# Altium footprint library OBDII-components.PcbLib: 27 footprints (part 2 of 2)
Each footprint in its own frame and in the unit in brackets; x right, y up, seen from the top. Pads: shape width x height; smd on the part's side, far side on the other; paste and mask are expansions set on the pad; w line width, h text height; cw(c..) or ccw(c..) is an arc to the next point about the centre after c.
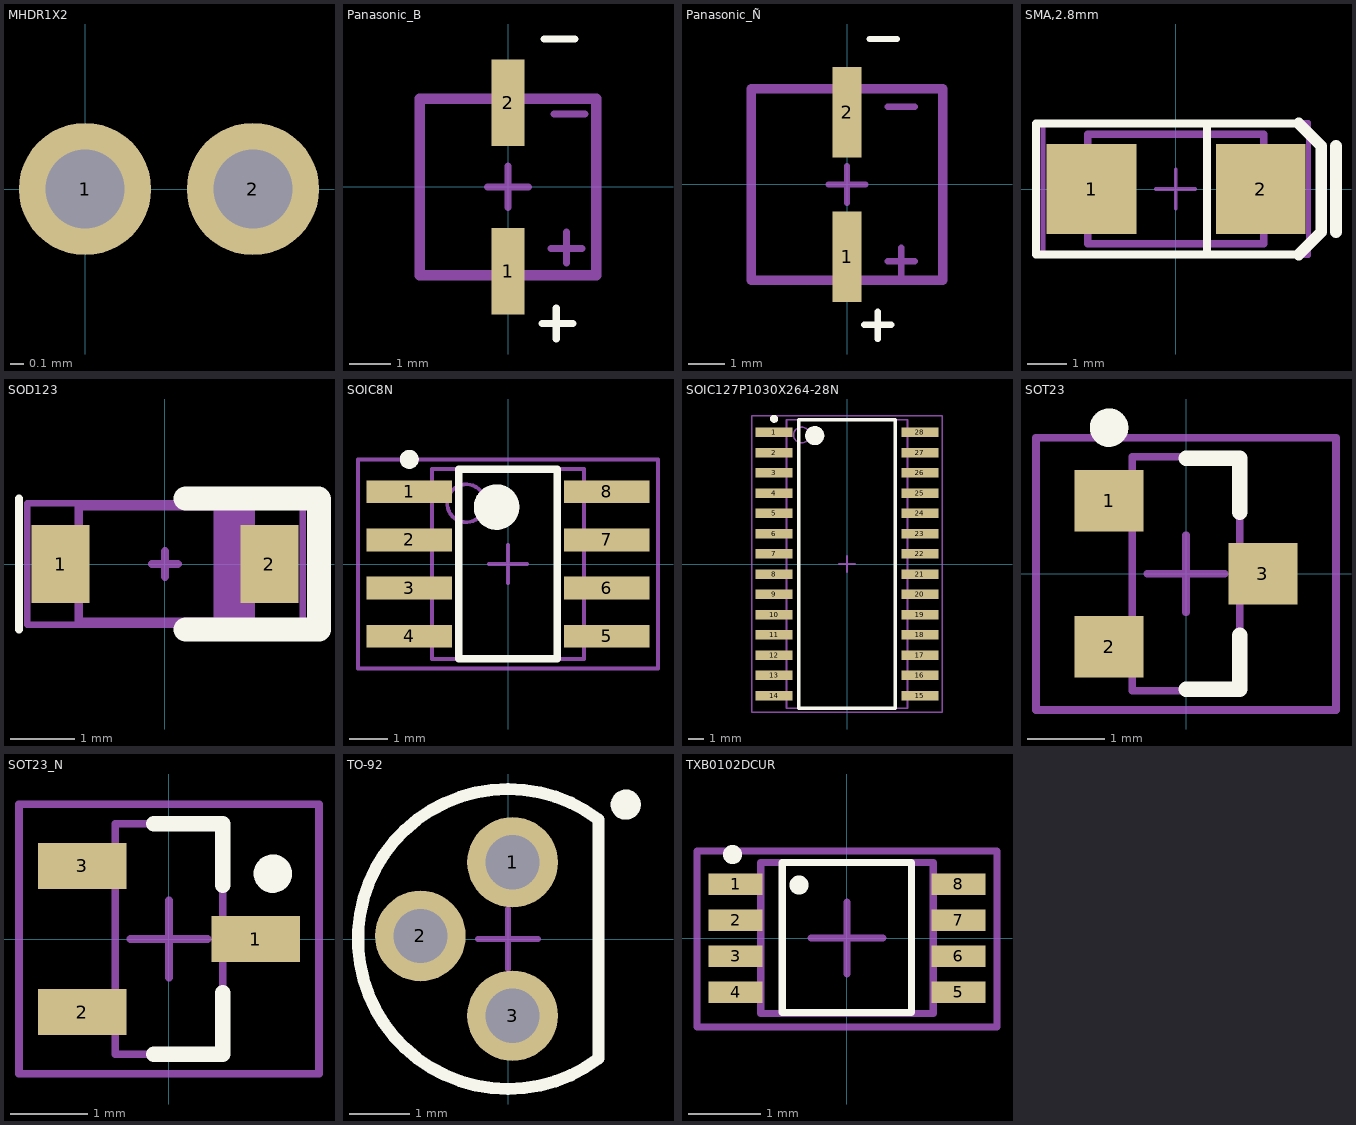
[diagram p1: the footprints below, top view; thin cyan lines are the x and y axes]

## MHDR1X2 [mm] "Connector; Header; 2 Position"
pads (2):
  round 1 hole 0.6: 1(0,0) 2(1.27,0)

## Panasonic_B [mm] "Panasonic Ñ size code electrolytic capacitor"
height 5.5
pads (2):
  rect 0.8x2.1 smd paste+0: 1(0,-2.05)
  rect 0.8x2.1 smd: 2(0,2.05)
Top Overlay:
  lines w0.178: 0.825,-3.325 1.575,-3.325 ; 0.875,3.6 1.625,3.6 ; 1.175,-3.7 1.175,-2.95
Mechanical 1:
  text ".Designator" at -1.5,-0.5 h1.27
Mechanical 13:
  lines w0.178: 1.05,-1.5 1.8,-1.5 ; 1.125,1.775 1.875,1.775 ; 1.425,-1.85 1.425,-1.1
Mechanical 15:
  lines w0.178: -0.5,0 0.5,0 ; 0,-0.5 0,0.5
  lines w0.254: -2.15,-2.15 2.15,-2.15 2.15,2.15 -2.15,2.15 -2.15,-2.15

## Panasonic_Ñ [mm] "Panasonic Ñ size code electrolytic capacitor"
height 6.5
pads (2):
  rect 0.8x2.5 smd paste+0: 1(0,-2)
  rect 0.8x2.5 smd: 2(0,2)
Top Overlay:
  lines w0.178: 0.475,-3.875 1.225,-3.875 ; 0.625,4.025 1.375,4.025 ; 0.85,-4.275 0.85,-3.525
Mechanical 1:
  text ".Designator" at -1.5,-0.5 h1.27
Mechanical 13:
  lines w0.178: 1.125,-2.125 1.875,-2.125 ; 1.125,2.15 1.875,2.15 ; 1.5,-2.5 1.5,-1.75
Mechanical 15:
  lines w0.178: -0.5,0 0.5,0 ; 0,-0.5 0,0.5
  lines w0.254: -2.65,-2.65 2.65,-2.65 2.65,2.65 -2.65,2.65 -2.65,-2.65

## SMA,2.8mm [mm] "DO-214AC/SMA"
height 2.3
pads (2):
  rect 2.3x2.3 smd: 1(-2.15,0) 2(2.175,0)
Top Overlay:
  lines w0.2: 0.8,-1.675 0.8,1.675 ; 3.15,-1.675 -3.575,-1.675 -3.575,1.675 3.15,1.675
  lines w0.3: 3.15,-1.675 3.725,-1.1 3.725,1.1 3.15,1.675 ; 4.1,-1.1 4.1,1.1
Mechanical 1:
  text ".Designator" at 0,0 h0.64
Mechanical 13:
  lines w0.15: -2.25,-0.85 -2.8,-0.85 -2.8,0.85 -2.25,0.85 ; 2.25,-0.85 2.8,-0.85 2.8,0.85 2.25,0.85 ; 2.25,-0.5 cw(c2.25,0) 2.25,0.5 2.25,-0.5
  lines w0.2: 0.8,-1.4 0.8,1.4 ; 2.249,-1.4 -2.25,-1.4 -2.25,1.4 2.249,1.4 ; 2.25,-1.399 2.25,-0.5 ; 2.25,0.5 2.25,1.399
Mechanical 15:
  lines w0.1: -0.5,0 0.5,0 ; 0,-0.5 0,0.5
  lines w0.127: -3.4,-1.7 3.4,-1.7 3.4,1.7 -3.4,1.7 -3.4,-1.7
3D body: height 2.39, standoff -0.02, extent -2.6,-1.3 2.6,1.3

## SOD123 [mm] "Diode SOD123, Gull-wing"
height 0.034
pads (2):
  rect 0.91x1.22 smd: 1(-1.635,0) 2(1.635,0)
Top Overlay:
  lines w0.127: -2.286,-1.025 -2.286,1.025
  lines w0.254: 2.404,1.025 2.413,1.016
  lines w0.381: 0.325,-1.025 2.413,-1.025 2.413,1.016 ; 0.325,1.025 2.404,1.025
Mechanical 1:
  text ".Designator" at 0,0 h0.64
Mechanical 13:
  region: 0.762,-0.9 0.762,0.9 1.35,0.9 1.35,-0.9
  lines w0.127: -1.35,-0.9 -1.35,0.9 1.35,0.9 1.35,-0.9 -1.35,-0.9
Mechanical 15:
  lines w0.1: -2.159,-0.95 -2.159,0.95 2.159,0.95 2.159,-0.95 -2.159,-0.95
  lines w0.127: -0.2,0 0.2,0 ; 0,-0.2 0,0.2
3D body: height 1.27, standoff 0, extent -1.85,-0.8 1.85,0.8

## SOIC8N [mm] "SOIC, 8-Leads, Body 5.0x4.0mm (max), Pitch 1.27mm, IPC Medium Density"
height 1.75
pads (8):
  rect 2.25x0.6 smd: 1(-2.6,1.905) 2(-2.6,0.635) 3(-2.6,-0.635) 4(-2.6,-1.905) 5(2.6,-1.905) 6(2.6,-0.635) 7(2.6,0.635) 8(2.6,1.905)
Top Overlay:
  circle w0.6: c-0.3,1.5 r0.3
  circle w0.25: c-2.6,2.755 r0.125
  lines w0.2: -1.3,-2.5 1.3,-2.5 1.3,2.5 -1.3,2.5 -1.3,-2.5
Mechanical 1:
  text ".Designator" at 0.2,-2.35 h0.64
Mechanical 13:
  circle w0.1: c-1.1,1.6 r0.5
  lines w0.1: -2,-2.5 2,-2.5 2,2.5 -2,2.5 -2,-2.5
Mechanical 15:
  lines w0.1: -0.5,0 0.5,0 ; 0,-0.5 0,0.5 ; -3.95,-2.75 3.95,-2.75 3.95,2.75 -3.95,2.75 -3.95,-2.75
3D body: height 1.75, standoff 0.25, extent -2,-2.5 2,2.5

## SOIC127P1030X264-28N [mm] "SOIC, 28-Leads, Body 18.1x7.6mm (max), Pitch 1.27mm, IPC Medium Density"
height 2.64
pads (28):
  rect 2.3x0.6 smd: 1(-4.575,8.255) 2(-4.575,6.985) 3(-4.575,5.715) 4(-4.575,4.445) 5(-4.575,3.175) 6(-4.575,1.905) 7(-4.575,0.635) 8(-4.575,-0.635) 9(-4.575,-1.905) 10(-4.575,-3.175) 11(-4.575,-4.445) 12(-4.575,-5.715) 13(-4.575,-6.985) 14(-4.575,-8.255) 15(4.575,-8.255) 16(4.575,-6.985) 17(4.575,-5.715) 18(4.575,-4.445) 19(4.575,-3.175) 20(4.575,-1.905) 21(4.575,-0.635) 22(4.575,0.635) 23(4.575,1.905) 24(4.575,3.175) 25(4.575,4.445) 26(4.575,5.715) 27(4.575,6.985) 28(4.575,8.255)
Top Overlay:
  circle w0.25: c-4.575,9.105 r0.125
  circle w0.6: c-2.025,8.05 r0.3
  lines w0.2: -3.025,-9.05 -3.025,9.05 3.025,9.05 3.025,-9.05 -3.025,-9.05
Mechanical 1:
  text ".Designator" at -1.25,-0.25 h2
Mechanical 13:
  circle w0.1: c-2.845,8.09 r0.5
  lines w0.1: -3.795,-9.04 -3.795,9.04 3.795,9.04 3.795,-9.04 -3.795,-9.04
Mechanical 15:
  lines w0.1: -0.5,0 0.5,0 ; 0,-0.5 0,0.5 ; -5.975,-9.3 -5.975,9.3 5.975,9.3 5.975,-9.3 -5.975,-9.3
3D body: height 2.64, standoff 0.1, extent -3.795,-9.04 3.795,9.04

## SOT23 [mm] "SOT23, 3-Leads, Body 3.0x2.6mm, Pitch 0.95mm"
height 1.8
pads (3):
  rect 0.9x0.8 smd: 1(-1,0.95) 2(-1,-0.95) 3(1,0)
Top Overlay:
  circle w0.25: c-1,1.9 r0.125
  lines w0.2: 0,-1.5 0.7,-1.5 0.7,-0.8 ; 0,1.5 0.7,1.5 0.7,0.8
Mechanical 1:
  text ".Designator" at 0,0 h1.27
Mechanical 13:
  lines w0.1: -0.7,-1.52 0.7,-1.52 0.7,1.52 -0.7,1.52 -0.7,-1.52
Mechanical 15:
  lines w0.1: -0.5,0 0.5,0 ; 0,-0.5 0,0.5 ; -1.95,-1.77 1.95,-1.77 1.95,1.77 -1.95,1.77 -1.95,-1.77
3D body: height 1.01, standoff -0.01, extent -1.25,-1.46 1.226,1.46

## SOT23_N [mm] "SOT23, 3-Leads, Body 2.9x1.3mm, Pitch 0.95mm, Lead Span 2.3mm - Reverse Pinning, IPC Medium Density"
height 1.1
pads (3):
  rect 1.15x0.6 smd: 1(1.125,0) 2(-1.125,-0.95) 3(-1.125,0.95)
Top Overlay:
  circle w0.25: c1.35,0.85 r0.125
  lines w0.2: -0.2,-1.5 0.7,-1.5 0.7,-0.7 ; -0.2,1.5 0.7,1.5 0.7,0.7
Mechanical 13:
  lines w0.1: -0.7,-1.5 0.7,-1.5 0.7,1.5 -0.7,1.5 -0.7,-1.5
Mechanical 15:
  lines w0.1: -0.5,0 0.5,0 ; 0,-0.5 0,0.5 ; -1.95,-1.75 1.95,-1.75 1.95,1.75 -1.95,1.75 -1.95,-1.75
3D body: height 1.1, standoff 0, extent -0.7,-1.5 0.7,1.5

## TO-92 [mm] "TO, Flat Index; 3 In-Line, Axial Leads; Body Dia. 4.5mm; Leads 0.51 x 0.48 mm (max)"
height 6.86
pads (3):
  round 1.5 hole 0.9: 1(0.075,1.27) 2(-1.45,0.05) 3(0.075,-1.27)
Top Overlay:
  circle w0.25: c1.95,2.225 r0.125
  lines w0.2: 1.5,-1.98 cw(c0,0) 1.5,1.98 1.5,-1.98
Mechanical 13:
  lines w0.1: 1.5,-1.98 cw(c0,0) 1.5,1.98 1.5,-1.98
Mechanical 15:
  lines w0.1: -0.5,0 0.5,0 ; 0,-0.5 0,0.5
3D body: height 6.86, standoff 2.2, extent -2.497,-2.497 1.501,2.497

## TXB0102DCUR [mm] "2-Bit Bidirectional Voltage-Level Translator with Auto Direction Sensing and +/-15-kV ESD Protect"
height 1
pads (8):
  rect 0.75x0.3 smd mask+0.04: 1(-1.55,0.75) 2(-1.55,0.25) 3(-1.55,-0.25) 4(-1.55,-0.75) 5(1.55,-0.75) 6(1.55,-0.25) 7(1.55,0.25) 8(1.55,0.75)
Top Overlay:
  circle w0.254: c-1.592,1.164 r0.005
  circle w0.254: c-0.667,0.739 r0.005
  lines w0.1: 0.899,-1.036 -0.9,-1.036 -0.9,1.052 0.9,1.052 0.9,-1.035
Mechanical 1:
  text ".Designator" at 0.138,-2.411 h0.64
Mechanical 13:
  lines w0.1: -1.2,-1.048 -1.2,1.052 1.2,1.052 1.2,-1.048 -1.2,-1.048
Mechanical 15:
  lines w0.1: -0.5,0.002 0.5,0.002 ; 0,-0.498 0,0.502 ; -2.087,-1.236 2.088,-1.236 2.088,1.214 -2.087,1.214 -2.087,-1.236
3D body: height 0.9, standoff 0.1, extent -1.2,-1.048 1.2,1.052